# EAGLE library part SAA7127H (library Traficon)
Digital video encoder
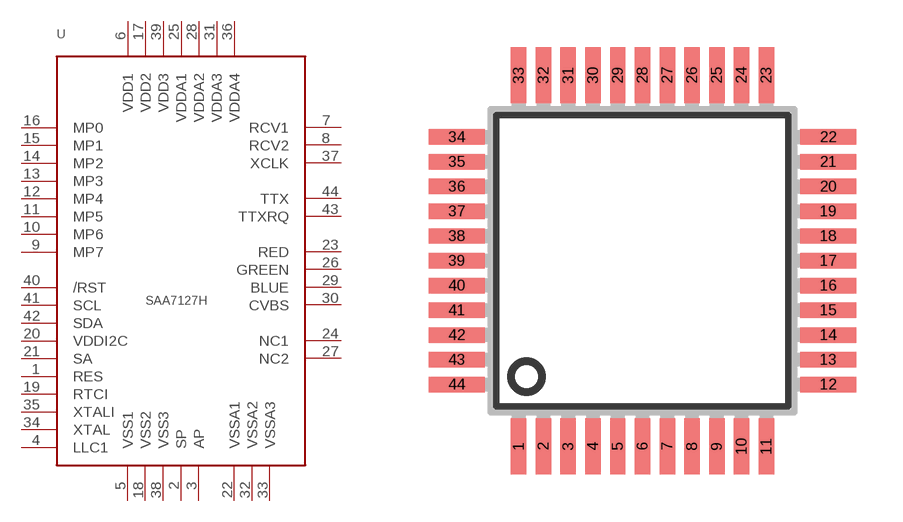
[diagram p44: symbol with the pads of QFP44_SOT307-2; footprint QFP44_SOT307-2]

Designator prefix U

## SAA7127H  [QFP44_SOT307-2]
1  RES
2  SP  pas
3  AP  pas
4  LLC1
5  VSS1  pas
6  VDD1  pas
7  RCV1
8  RCV2
9  MP7
10  MP6
11  MP5
12  MP4
13  MP3
14  MP2
15  MP1
16  MP0
17  VDD2  pas
18  VSS2  pas
19  RTCI
20  VDDI2C
21  SA
22  VSSA1  pas
23  RED
24  NC1
25  VDDA1  pas
26  GREEN
27  NC2
28  VDDA2  pas
29  BLUE
30  CVBS
31  VDDA3  pas
32  VSSA2  pas
33  VSSA3  pas
34  XTAL
35  XTALI
36  VDDA4  pas
37  XCLK
38  VSS3  pas
39  VDD3  pas
40  /RST
41  SCL
42  SDA
43  TTXRQ
44  TTX

## Footprint QFP44_SOT307-2 (pad centres in mm)
Plastic Quad Flat Package SOT307-2 44 leads (lead length 1.3 mm); body 10 x 10 x 1.75 mm SOT307-2 source: http://www.semiconductors.philips.com/ LQFP-MSQFP-QFP-SQFP-TQFP-REFLOW.pdf
smd 0.5 x 1.8: 1 -4,-6; 2 -3.2,-6; 3 -2.4,-6; 4 -1.6,-6; 5 -0.8,-6; 6 0,-6; 7 0.8,-6; 8 1.6,-6; 9 2.4,-6; 10 3.2,-6; 11 4,-6; 23 4,6; 24 3.2,6; 25 2.4,6; 26 1.6,6; 27 0.8,6; 28 0,6; 29 -0.8,6; 30 -1.6,6; 31 -2.4,6; 32 -3.2,6; 33 -4,6
smd 1.8 x 0.5: 12 6,-4; 13 6,-3.2; 14 6,-2.4; 15 6,-1.6; 16 6,-0.8; 17 6,0; 18 6,0.8; 19 6,1.6; 20 6,2.4; 21 6,3.2; 22 6,4; 34 -6,4; 35 -6,3.2; 36 -6,2.4; 37 -6,1.6; 38 -6,0.8; 39 -6,0; 40 -6,-0.8; 41 -6,-1.6; 42 -6,-2.4; 43 -6,-3.2; 44 -6,-4